# Altium footprint library SN74CB3Q3251RGYR.PcbLib: 1 footprints
Each footprint in its own frame and in the unit in brackets; x right, y up, seen from the top. Pads: shape width x height; smd on the part's side, far side on the other; paste and mask are expansions set on the pad; w line width, h text height; cw(c..) or ccw(c..) is an arc to the next point about the centre after c.
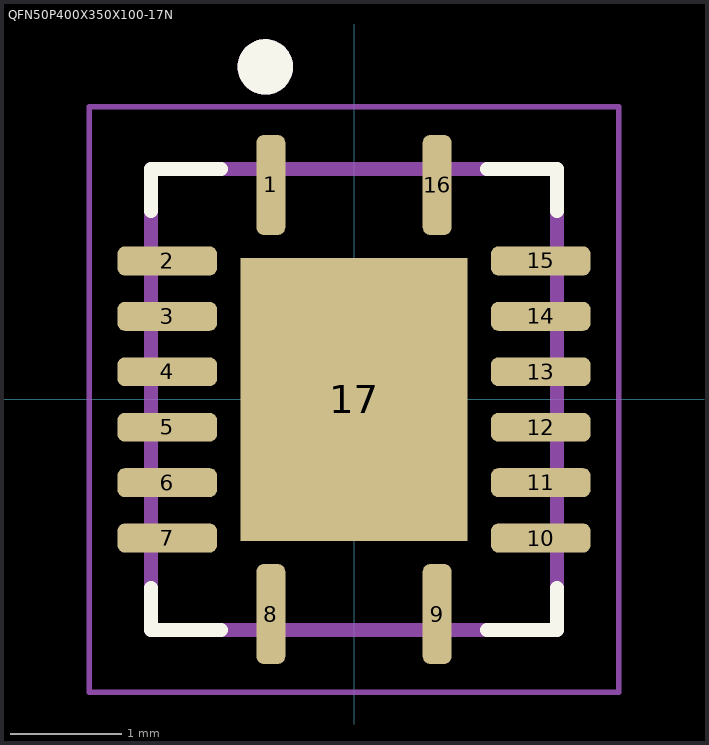
[diagram p0: the footprint, top view; thin cyan lines are the x and y axes]

## QFN50P400X350X100-17N [mm]
pads (17):
  rrect50% 0.26x0.9 smd: 1(-0.75,1.935) 8(-0.75,-1.935) 9(0.75,-1.935) 16(0.75,1.935)
  rrect50% 0.9x0.26 smd: 2(-1.685,1.25) 3(-1.685,0.75) 4(-1.685,0.25) 5(-1.685,-0.25) 6(-1.685,-0.75) 7(-1.685,-1.25) 10(1.685,-1.25) 11(1.685,-0.75) 12(1.685,-0.25) 13(1.685,0.25) 14(1.685,0.75) 15(1.685,1.25)
  rect 2.05x2.55 smd paste-2: 17(0,0)
Top Overlay:
  circle w0.3: c-0.8,3 r0.1
  lines w0.127: -1.83,-1.7 -1.83,-2.08 -1.2,-2.08 ; -1.83,1.7 -1.83,2.08 -1.2,2.08 ; 1.2,-2.08 1.83,-2.08 1.83,-1.7 ; 1.2,2.08 1.83,2.08 1.83,1.7
Mechanical 13:
  circle w0.3: c-0.8,3 r0.1
  lines w0.127: -1.83,-2.08 -1.83,2.08 1.83,2.08 1.83,-2.08 -1.83,-2.08
Mechanical 15:
  lines w0.05: -2.39,-2.64 -2.39,2.64 2.39,2.64 2.39,-2.64 -2.39,-2.64
3D body "step_temp.STEP": height 1, standoff 0, extent -1.75,-2 1.75,2